# Altium schematic symbol library Other.SchLib: 75 symbols
Pins are listed as number, name and electrical type; pins without a type are passive.

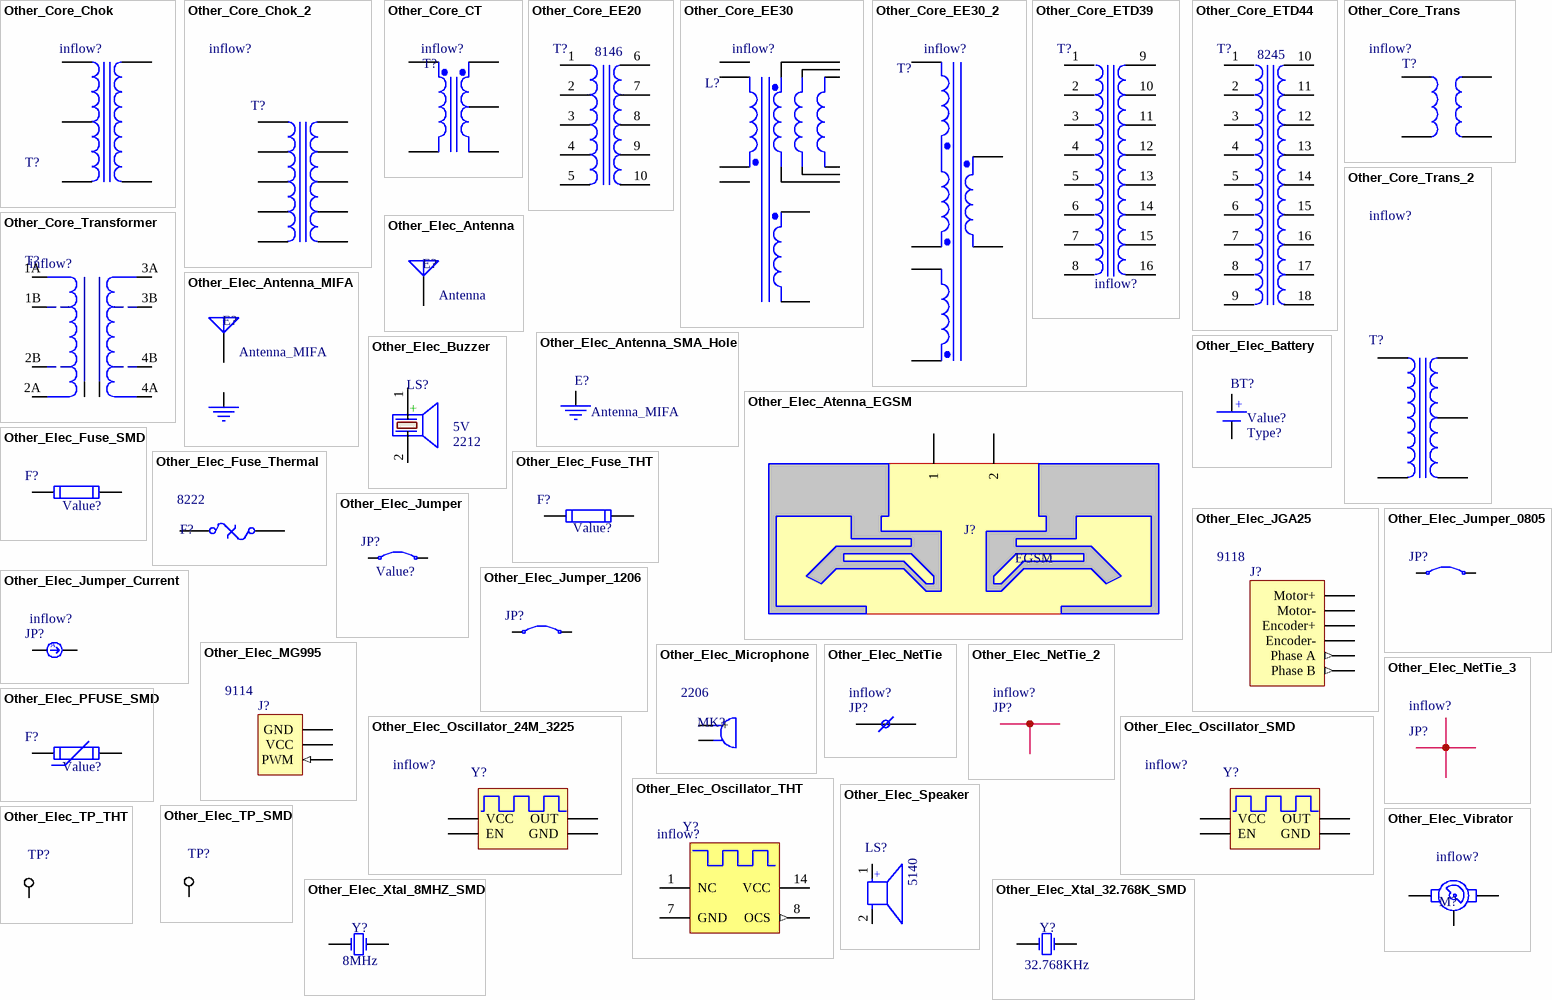
[diagram p0: symbols Other_Core_Chok to Other_Elec_Xtal_32.768K_SMD]

## Other_Core_Chok
designator T?, comment Inflow: inflow?  (hidden comment: Value?)
Chok1; Rating: Rating?; Type: Type?; Validation: NT; Value: Value?; Package: Package?
footprint CHOK
pins: 0, 1, 2, 3, 4

## Other_Core_Chok_2
designator T?, comment Inflow: inflow?  (hidden comment: Value?)
Chok2; Rating: Rating?; Type: Type?; Validation: NT; Value: Value?; Package: Package?
footprint CHOK 1
pins: 1, 2, 3, 4, 5, 6, 7, 8, 9, 10

## Other_Core_CT
designator T?, comment Inflow: inflow?  (hidden comment: Value?)
Center-Tapped Transformer; Rating: Rating?; Type: Type?; Validation: NT; Value: Value?; Package: Package?
footprint TRF_5 (Transformer; 5 Leads)
pins: 1 Pri+, 2 Pri-, 3 Sec+, 4 SecCT, 5 Sec-

## Other_Core_EE20
designator T?, comment Inflow: 8146  (hidden comment: EE20/10/6/H)
Ferrite Core; Rating: Rating?; Type: Type?; Validation: Valid; Value: EE20/10/6/H; Package: Package?
footprint EE20
pins: 1 (power), 2 (power), 3 (power), 4 (power), 5 (power), 6 (power), 7 (power), 8 (power), 9 (power), 10 (power)

## Other_Core_EE30
designator L?, comment Inflow: inflow?  (hidden comment: EE30-TR)
Rating: Rating?; Type: Type?; Validation: NT; Value: EE30-TR; Package: Package?
footprint EE30-TR (PDL-851 Trance)
pins: 1 Sec1+, 2 Sec1+, 3 Sec1+, 4 Sec1-, 5 Sec1-, 6 Sec1-, 7 F+, 8 F-, 9, 10 Pri1-, 11, 12 Pri1+

## Other_Core_EE30_2
designator T?, comment Inflow: inflow?  (hidden comment: EE30-TR)
TRANS; Rating: Rating?; Type: Type?; Validation: NT; Value: EE30-TR; Package: Package?
footprint EE30-TR-1 (PDL-851 Trance)
pins: 1 Pri1+, 2 Pri1-, 3 Pri2-, 4 Pri2+, 5 F+, 6 F-

## Other_Core_ETD39
designator T?, comment Inflow: inflow?  (hidden comment: ETD39)
Ferrite Core; Rating: Rating?; Validation: Valid; Value: ETD39; Package: Dip; Type: Ferrite
footprint ETD39
pins: 1 (power), 2 (power), 3 (power), 4 (power), 5 (power), 6 (power), 7 (power), 8 (power), 9 (power), 10 (power), 11 (power), 12 (power), 13 (power), 14 (power), 15 (power), 16 (power)

## Other_Core_ETD44
designator T?, comment Inflow: 8245  (hidden comment: ETD44/22/15)
Ferrite Core; Rating: Rating?; Type: Type?; Validation: Valid; Value: ETD44/22/15; Package: Package?
footprint ETD44
pins: 1 (power), 2 (power), 3 (power), 4 (power), 5 (power), 6 (power), 7 (power), 8 (power), 9 8 (power), 10 (power), 11 (power), 12 (power), 13 (power), 14 (power), 15 (power), 16 (power), 17 (power), 18 (power)

## Other_Core_Trans
designator T?, comment Inflow: inflow?  (hidden comment: Value?)
Transformer; Rating: Rating?; Type: Type?; Validation: NT; Value: Value?; Package: Package?
footprint TRANS (Transformer; 4 Leads)
pins: 1, 2, 3, 4

## Other_Core_Trans_2
designator T?, comment Inflow: inflow?  (hidden comment: Value?)
Trans1; Rating: Rating?; Type: Type?; Validation: NT; Value: Value?; Package: Package?
footprint TRANC 1
pins: 1, 2, 3, 4, 5

## Other_Core_Transformer
designator T?, comment Inflow: inflow?  (hidden comment: Value?)
Transformer; Rating: Rating?; Type: Type?; Validation: NT; Value: Value?; Package: Package?
footprint Trans- Small
pins: 1A, 1B, 2A, 2B, 3A, 3B, 4A, 4B, SA, SB

## Other_Elec_Antenna
designator E?, comment Antenna
Generic Antenna; Inflow: inflow?; Value: Value?; Rating: Rating?; Validation: NT; Package: Package?; Type: Type?
footprint Antenna_IIFA_2.4GHz (Small Size IIFA 2.4 GHz PCB antenna)
footprint GPS1003 (GPS1003 Multilayer Chip Antenna)
footprint MD1506_12N (MD1506  ‐  12N  Multilayer  Chip  Antenna)
footprint AN1603 (AN1603 Multilayer Chip Antenna)
footprint Antenna_IIFA_868MHz_915MHz (Small Size IIFA 868MHz/915MHz PCB antenna)
footprint Antenna_ILA_2.4GHz
footprint Antenna_ILA_B_2.4GHz
footprint Antenna_PIFA_2.4GHz_1MM (Small Size PIFA 2.4 GHz PCB antenna)
footprint AN9520 (AN9520  Multilayer Chip Antenna for  2.4GHz Wireless Communication)
footprint Antenna_RT5370_AP_D9595 (Wi-Fi 2.4GHz PCB Antenna)
footprint Antenna_IIFA_2.4GHz_ESP (Small Size IIFA 2.4 GHz PCB antenna)
pins: 1 A

## Other_Elec_Antenna_MIFA
designator E?, comment Antenna_MIFA
Meandered Inverted F Antenna; Inflow: inflow?; Value: Value?; Rating: Rating?; Validation: NT; Package: Package?; Type: Type?
footprint Antenna_IIFA_2.4GHz (Small Size IIFA 2.4 GHz PCB antenna)
footprint Antenna_IIFA_868MHz_915MHz (Small Size IIFA 868MHz/915MHz PCB antenna)
footprint Antenna_IIFA_868MHz_915MHz (Small Size IIFA 868MHz/915MHz PCB antenna)
footprint Antenna_PIFA_2.4GHz_1MM (Small Size PIFA 2.4 GHz PCB antenna)
footprint Antenna_RT5370_AP_D9595 (Wi-Fi 2.4GHz PCB Antenna)
footprint Antenna_IIFA_2.4GHz_ESP (Small Size IIFA 2.4 GHz PCB antenna)
pins: 1 A, 2 G

## Other_Elec_Antenna_SMA_Hole
designator E?, comment Antenna_MIFA
SMA PCB Hole; Inflow: inflow?; Value: Value?; Rating: Rating?; Validation: NT; Package: Package?; Type: Type?
footprint SMA_PCB_Hole
pins: 2 G

## Other_Elec_Atenna_EGSM
designator J?, comment EGSM
Inflow: inflow?; Value: Value?; Rating: Rating?; Validation: NT; Package: Package?; Type: Type?
footprint EGSM (EGSM Antenna (900MHz Band))
pins: 1, 2

## Other_Elec_Battery
designator BT?, comment Type: Type?  (hidden comment: Value?)
Multicell Battery; Inflow: inflow?; Rating: Rating?; Validation: Valid; Package: Package?; Value: Value?
footprint BAT-2 (Battery; 2 Leads)
footprint Battry
footprint Battry 9V; pin to pad 1>2 2>1
footprint CR2032 (Battery holder)
footprint BTH2032 (COIN CELL BATTERY HOLDER 1220 12mm CR2032)
footprint cell_holder (Battery Cell Holder)
footprint cell_holder2 (Battery Cell Holder)
footprint SMD_CELL_HOLDER_BC501SM-TR (BC501SM-TR Battery Holder (For CR1220 Cells))
footprint CR1220 (Battery Holder, Lead Spacing 19mm)
footprint BATT_LR
footprint ER14505 (Primary Lithium Thionyl Chloride 3V6, 2400mA)
footprint ER26500M (Primary Lithium Thionyl Chloride 3V6, 6500mA)
footprint ER34615 (Primary Lithium Thionyl Chloride 3V6, 6500mA)
footprint Li-ion battery holder
footprint CR2032 Straight (Battery Holder)
footprint XH02_Batt (XH Connector, Body 2.5 x 7.4 mm)
footprint SMD BATT_PAD
pins: 1 +, 2 -

## Other_Elec_Buzzer
designator LS?, comment Inflow: 2212  (hidden comment: 5V)
Magnetic Transducer Buzzer; Rating: 12mm; Validation: Valid; Type: Buzzer; Package: Dip; Value: 5V
footprint BZ_SJ
footprint BZ_ABSM-1574 (Footprint not found)
footprint BZ_B/C11L
footprint BZ_B/C11S
footprint BZ_B/C14L
footprint BZ_B/C14S
footprint BZ_B/C17L
footprint BZ_B/C17S
footprint BZ_BMT1205XH7.5
footprint BZ_BPT-24X
footprint BZ_EB2209A
footprint BZ_EB2505
footprint BZ_EFBAA40D101
footprint BZ_EFBRD22C41
footprint BZ_EFBRD22C413
footprint BZ_EFBRD24C411
footprint BZ_F/BC35
footprint BZ_F/BC40
footprint BZ_F/CM04P
footprint BZ_F/CM12P
footprint BZ_F/DB18
footprint BZ_F/EB20P
footprint BZ_F/EE17P
footprint BZ_F/EE21P
footprint BZ_F/HGP
footprint BZ_F/HMB
footprint BZ_F/QMB
footprint BZ_F/QMBIII
footprint BZ_F/QMX
footprint BZ_F/TMB
footprint BUZZER 7.62mm DC (BUZZER 12mm DIA , 7.62mm pitch DESIGNER ABBAS BASEREH)
pins: 1 +, 2 -
4 alternate drawings of the same symbol

## Other_Elec_Fuse_SMD
designator F?, comment Value?
Short circiut  protection; Inflow: inflow?; Type: Fast; Rating: Rating?; Validation: Valid; Package: 1206; Value: Value?
footprint 1206 fuse (Fast Acting Smd 1206 non-Resettable Fuse Chip For Pcb Board-Design:Abbas Basereh)
footprint 0402_F (Surface mount FUSE 0402)
footprint 0603_F (Surface mount FUSE 0603)
footprint 0805_F (Surface mount FUSE 0805)
footprint 1206_F (Surface mount FUSE 1206)
footprint 1812_F (Surface mount FUSE 1812)
footprint 2010_F
footprint 2512_F
pins: 1, 2

## Other_Elec_Fuse_Thermal
designator F?, comment Inflow: 8222  (hidden comment: 180'C, 10'A)
Thermal Fuse; Rating: Rating?; Type: Type?; Validation: NT; Value: 180'C, 10'A; Package: Package?
footprint PIN-W2/E2.8 (Thru-Hole; 2 Leads)
pins: 1, 2

## Other_Elec_Fuse_THT
designator F?, comment Value?
Short circiut  protection; Type: Type?; Inflow: inflow?; Rating: Rating?; Validation: Valid; Package: Package?; Value: Value?
footprint Fuse1 (Fuse Box with Door)
footprint Fuse'
footprint Fuse''
footprint Fuse 5x20 With holder pin (Dsigner : Abbas Basereh)
footprint FUSE_5X20MM_4PIN (Fuse Holder 5x20mm 4 PIN)
footprint FUSE_6X30MM_4PIN (Fuse Holder 6x30mm 4 PIN)
footprint Fuse - Complex
footprint Fuse_resistor
footprint FUSE-Double PAD
footprint Fuse-Single Pad
footprint FUSE_PPTC_UF90
footprint FUSE_PPTC_UF200
footprint FUSE_PPTC_UF250
footprint FUSE_PPTC_UF300
footprint FUSE_PPTC_UF400
footprint FUSE_PPTC_UF500
footprint FUSE_PPTC_UF900
footprint FUSE_PPTC_XF0025
footprint FUSE_PPTC_XF0050
footprint FUSE_PPTC_XF160
footprint FUSE_BLX_20x5
pins: 1, 2

## Other_Elec_JGA25
designator J?, comment Inflow: 9118  (hidden comment: JGA25)
Dc motor with enchoder; Rating: Rating?; Validation: NT; Value: JGA25; Package: Package?; Type: Type?
footprint HDR_THT_6M_2.54mm (Pin Header, pitch 2.54 mm, THT, Vertical, single row, 6p)
footprint HDR_SMD_6M_2.54mm_ (Pin Header, pitch 2.54 mm, SMD, Vertical, single row, 6p)
footprint HDR_SMD_6M_2.54mm (Pin Header, pitch 2.54 mm, SMD, Vertical, single row, 6p)
footprint HDR_THT_6M_2.54mm_RA (Pin Header, pitch 2.54 mm, THT, Angled, single row, 6p)
pins: 1 Motor+ (power) "Red, Max:24'V", 2 Motor- (power) "Black", 3 Encoder+ (power) "Green, +5'V", 4 Encoder- (power) "Blue, GND", 5 Phase A (out) "White", 6 Phase B (out) "Yellow"

## Other_Elec_Jumper
designator JP?, comment Value?
Jumper Component; Rating: Rating?; Inflow: 1102; Validation: Valid; Package: Dip; Type: Selector; Value: Value?
footprint J0R/10 (0 Ohm Jumper Resistor)
footprint JP254_H (Jumper Header 2.54mm Pitch, Horizontal)
footprint JP254_V (Jumper Header 2.54mm Pitch, Vertical)
footprint SJ (SMD Jumper)
footprint SJW (SMD Jumper Wide)
footprint J0508-200 (5.08 mm (200mil) Jumper wire)
footprint J0762-300 (7.62 mm (300 mil) Jumper wire)
footprint J1016-400 (10.16 mm (400 mil) Jumper wire)
footprint J1270-500 (12.7 mm (500 mil) Jumper wire)
footprint J1524-600 (15.24 mm (600 mil) Jumper wire)
footprint J2032-800 (20.32 mm (800 mil) Jumper wire)
footprint J2540-1000 (25.4 mm (1000 mil) Jumper wire)
footprint J3048-1200 (30.48 mm (1200 mil) Jumper wire)
footprint JMP-0.4
footprint JMP-0.5
pins: 1, 2
4 alternate drawings of the same symbol

## Other_Elec_Jumper_0805
designator JP?, comment Jumper  (value not drawn)
Jumper Component; Rating: Rating?; Inflow: inflow?; Validation: Valid; Type: Type?; Package: 0805; Value: Jumper
footprint RESC2012M (0805) (Chip Resistor, Body 2.0x1.3mm, IPC Low Density)
pins: 1, 2
4 alternate drawings of the same symbol

## Other_Elec_Jumper_1206
designator JP?, comment Jumper  (value not drawn)
Jumper Component; Rating: Rating?; Inflow: inflow?; Validation: Valid; Type: Type?; Package: 1206; Value: Jumper
footprint RESC3216X60M (1206) (Chip Resistor, Body 3.2x1.6x0.60mm, IPC Low Density)
pins: 1, 2
4 alternate drawings of the same symbol

## Other_Elec_Jumper_Current
designator JP?, comment Inflow: inflow?  (hidden comment: Jumper)
Current jumper component; Rating: Rating?; Validation: NT; Value: Jumper; Package: Package?; Type: Type?
footprint CJ_500_1'mm (12.7 mm (500 mil) Jumper wire)
footprint CJ_500_1.5'mm (12.7 mm (500 mil) Jumper wire)
footprint CJ_500_2.5'mm (12.7 mm (500 mil) Jumper wire)
footprint CJ_800_1'mm (20.32 mm (800 mil) Jumper wire)
footprint CJ_800_1.5'mm (20.32 mm (800 mil) Jumper wire)
footprint CJ_800_2.5'mm (20.32 mm (800 mil) Jumper wire)
footprint CJ_1200_1'mm (30.48 mm (1200 mil) Jumper wire)
footprint CJ_1200_1.5'mm (30.48 mm (1200 mil) Jumper wire)
footprint CJ_1200_2.5'mm (30.48 mm (1200 mil) Jumper wire)
pins: 1, 2
4 alternate drawings of the same symbol
text: A

## Other_Elec_MG995
designator J?, comment Inflow: 9114  (hidden comment: MG995)
MG995 180deg Servo motor; Rating: Rating?; Validation: Valid; Value: MG995; Package: Package?; Type: Type?
footprint HDR_THT_3M_2.54mm (Pin Header, pitch 2.54 mm, THT, Vertical, single row, 3p)
footprint HDR_THT_3M_2.54mm_RA (Pin Header, pitch 2.54 mm, THT, Angled, single row, 3p)
pins: 1 GND (power) "Brown", 2 VCC (power) "Red, 4.8'V~7.2'V=5'V", 3 PWM (in) "Yellow"

## Other_Elec_Microphone
designator MK?, comment Inflow: 2206  (hidden comment: Mic)
Microphone; Rating: Rating?; Validation: NT; Value: Mic; Package: Package?; Type: Type?
footprint PIN2 (Microphone; 2 Leads)
footprint mic6
footprint mic10
footprint Microphone
pins: 1 +, 2

## Other_Elec_NetTie
designator JP?, comment Inflow: inflow?  (hidden comment: NetTile1)  (net tie, no BOM)
Net Tie One to One Connection; Rating: Rating?; Validation: NT; Value: NetTile1; Package: Package?; Type: Type?
footprint NT_1-1_1 (NetTie One to One)
footprint NT_1-1_3 (NetTie One to One)
footprint NT_1-1_1 - small (NetTie One to One)
footprint NT_1-1_3 - small (NetTie One to One)
footprint NT_1X1X01 (NetTie One to One - 0.1mm width)
footprint NT_1X1X02 (NetTie One to One - 0.2mm width)
footprint NT_1X1X03 (NetTie One to One- 0.3mm width)
footprint NT_1X1X04 (NetTie One to One- 0.4mm width)
footprint NT_1X1X05 (NetTie One to One- 0.5mm width)
footprint NT_1X1X06 (NetTie One to One- 0.6mm width)
footprint NT_1X1X07 (NetTie One to One- 0.7mm width)
footprint NT_1X1X08 (NetTie One to One- 0.8mm width)
footprint NT_1X1X09 (NetTie One to One- 0.9mm width)
footprint NT_1X1X10 (NetTie One to One- 1.0mm width)
footprint NT_1X1X12 (NetTie One to One- 1.2mm width)
footprint NT_1X1X15 (NetTie One to One- 1.5mm width)
footprint NT_1X1X20 (NetTie One to One- 2.0mm width)
pins: 1 (power), 2 (power)
1 alternate drawing of the same symbol

## Other_Elec_NetTie_2
designator JP?, comment Inflow: inflow?  (hidden comment: NetTile2)  (net tie, no BOM)
Net Tie One to Two Connection; Rating: Rating?; Validation: NT; Value: NetTile2; Package: Package?; Type: Type?
footprint NT_1-2_1 (NetTie One to Two)
footprint NT_1-2_2 (NetTie One to Two)
footprint NT_1-2_3 (NetTie One to Two)
footprint NT_1-2_4 (NetTie One to Two)
footprint NT_1-2_5 (NetTie One to Two)
footprint NT_1-2_6 (NetTie One to Two)
footprint NT_1-2_1 - small (NetTie One to Two)
footprint NT_1-2_2 - small (NetTie One to Two)
pins: 1 (power), 2 (power), 3 (power)
1 alternate drawing of the same symbol

## Other_Elec_NetTie_3
designator JP?, comment Inflow: inflow?  (hidden comment: NetTile3)  (net tie, no BOM)
Net Tie One to Two Connection; Rating: Rating?; Validation: NT; Value: NetTile3; Package: Package?; Type: Type?
footprint NT_1-3_1 (NetTie One to Three)
footprint NT_1-3_1 - small (NetTie One to Two)
footprint NT_1-3_2 (NetTie One to Three)
footprint NT_1-3_2 - small (NetTie One to Two)
footprint NT_1-3_3 (NetTie One to Three)
footprint NT_1-3_4 (NetTie One to Three)
footprint NT_1-3_5 (NetTie One to Two)
pins: 1 (power), 2 (power), 3 (power), 4 (power)
1 alternate drawing of the same symbol

## Other_Elec_Oscillator_24M_3225
designator Y?, comment Inflow: inflow?  (hidden comment: 24MHz)
1.8V to 3.3V 24MHz SMD3225-4P Oscillators; Rating: 20PPM; Validation: Valid; Value: 24MHz; Package: 3225; Type: Oscillator
footprint XTL_4_3225A (CRYSTAL OSCILATOR 3.2X2.5mm, ABM8, CDFN-4)
footprint XTL_4_3225GEN (CRYSTAL OSCILATOR 1.2X1.0mm to 3.2X2.5mm)
footprint XTL_4_3225A_Extended (CRYSTAL OSCILATOR 3.2X2.5mm, ABM8, CDFN-4)
pins: 1 EN, 2 GND, 3 OUT, 4 VCC

## Other_Elec_Oscillator_SMD
designator Y?, comment Inflow: inflow?  (hidden comment: Value?)
SMT Active Oscillator; Rating: Rating?; Validation: NT; Value: Value?; Package: Package?; Type: Type?
footprint SMT_XTAL_5x7mm
footprint SMT_XTAL_3225 (Quartz Crystal, SM; Body 3.2 x 2.5 mm)
footprint XTL_4_3225 (CRYSTAL OSCILATOR 3.2X2.5mm, ABM8, CDFN-4)
footprint XTL_4_3225A (CRYSTAL OSCILATOR 3.2X2.5mm, ABM8, CDFN-4)
pins: 1 EN, 2 GND, 3 OUT, 4 VCC

## Other_Elec_Oscillator_THT
designator Y?, comment Inflow: inflow?  (hidden comment: Value?)
Crystal Ocsilator; Rating: Rating?; Validation: NT; Value: Value?; Package: Package?; Type: Type?
footprint OCS
pins: 1 NC, 7 GND (power), 8 OCS (out), 14 VCC (power)

## Other_Elec_PFUSE_SMD
designator F?, comment Value?
SMD Resettable Fuses; Inflow: inflow?; Type: Fast; Rating: Rating?; Validation: Valid; Package: 1206; Value: Value?
footprint 1206 fuse (Fast Acting Smd 1206 non-Resettable Fuse Chip For Pcb Board-Design:Abbas Basereh)
footprint 0402_F (Surface mount FUSE 0402)
footprint 0603_F (Surface mount FUSE 0603)
footprint 0805_F (Surface mount FUSE 0805)
footprint 1206_F (Surface mount FUSE 1206)
footprint 1812_F (Surface mount FUSE 1812)
footprint 2010_F
footprint 2512_F
pins: 1, 2

## Other_Elec_Speaker
designator LS?, comment Inflow: 5140  (hidden comment: 8'Ohm, 0.5'Watt)
Speaker; Rating: Rating?; Validation: NT; Value: 8'Ohm, 0.5'Watt; Package: Package?; Type: Type?
footprint SP_AL11P
footprint SP_AL23P
footprint SP_AL30P
footprint SP_AL60P
footprint SP_AL201P
footprint SP_F/PMX04A
footprint SP_KSS1201
footprint JST XH B2B-XH-A
footprint JST XH B2B-XH-A - RIGHT
footprint MOLEX KK 0022272021
pins: 1 + "Positive Pin", 2 - "Negative Pin"
1 alternate drawing of the same symbol

## Other_Elec_TP_SMD
designator TP?, comment TestPoint  (value not drawn)  (no BOM)
Test Point; Rating: Rating?; Validation: NT; Inflow: inflow?; Value: TestPoint; Package: Package?; Type: Type?
footprint TP19 (Round SMD Test Pin; 1.9 mm)
footprint TP07SQ (Square SMD Test Pin; 0.7 mm)
footprint TP08SQ (Square SMD Test Pin; 0.8 mm)
footprint TP07 (Round SMD Test Pin; 0.7 mm)
footprint TP10SQ (Square SMD Test Pin; 1.0 mm)
footprint TP06SQ (Square SMD Test Pin; 0.6 mm)
footprint TP11SQ (Square SMD Test Pin; 1.1 mm)
footprint TP12SQ (Square SMD Test Pin; 1.2 mm)
footprint TP13SQ (Square SMD Test Pin; 1.3 mm)
footprint TP14SQ (Square SMD Test Pin; 1.4 mm)
footprint TP15SQ (Square SMD Test Pin; 1.5 mm)
footprint TP16SQ (Square SMD Test Pin; 1.6 mm)
footprint TP17SQ (Square SMD Test Pin; 1.7 mm)
footprint TP18SQ (Square SMD Test Pin; 1.8 mm)
footprint TP19SQ (Square SMD Test Pin; 1.9 mm)
footprint TP20SQ (Square SMD Test Pin; 2.0 mm)
footprint TP06 (Round SMD Test Pin; 0.6 mm)
footprint TP20 (Round SMD Test Pin; 2.0 mm)
footprint TP18 (Round SMD Test Pin; 1.8 mm)
footprint TP17 (Round SMD Test Pin; 1.7 mm)
footprint TP16 (Round SMD Test Pin; 1.6 mm)
footprint TP15 (Round SMD Test Pin; 1.5 mm)
footprint TP14 (Round SMD Test Pin; 1.4 mm)
footprint TP13 (Round SMD Test Pin; 1.3 mm)
footprint TP12 (Round SMD Test Pin; 1.2 mm)
footprint TP11 (Round SMD Test Pin; 1.1 mm)
footprint TP10 (Round SMD Test Pin; 1.0 mm)
footprint TP09 (Round SMD Test Pin; 0.9 mm)
footprint TP09SQ (Square SMD Test Pin; 0.9 mm)
footprint TP08 (Round SMD Test Pin; 0.8 mm)
footprint Test_Pin
footprint TP_SMD_1x4
footprint TP_SMD_1x3
footprint TP_SMD_1x2
footprint TP_SMD_1.5x2
footprint TP_SMD_1.5x3
footprint TP_SMD_1.5x4
footprint TP_SMD_2x2
footprint TP_SMD_2x3
footprint TP_SMD_2x4
footprint TP_SMD_1x1
pins: 1 TP
1 alternate drawing of the same symbol

## Other_Elec_TP_THT
designator TP?, comment TestPoint  (value not drawn)
Test Point; Rating: Rating?; Inflow: inflow?; Validation: Valid; Value: TestPoint; Package: Dip; Type: Type?
footprint Test Point
footprint Test Point Small
footprint TP-40P (Testpoint - 40 mil Hole Size)
footprint Wire 1.0 mm
footprint Wire 1.5 mm
footprint Wire 2.0 mm
pins: 1 TP
1 alternate drawing of the same symbol

## Other_Elec_Vibrator
designator M?, comment Inflow: inflow?  (hidden comment: Vibrator)
Rating: Rating?; Validation: NT; Value: Vibrator; Package: Package?; Type: Type?
footprint VIBRATOR (Vibrator)
pins: 1 R1, 2 R2, ETH (power)

## Other_Elec_Xtal_8MHZ_SMD
designator Y?, comment 8MHz
Crystal Oscillator; Rating: 10ppm; Inflow: inflow?; Validation: NT; Package: 5032; Type: Crystal; Value: 8MHz
footprint Crystal SMD
footprint XTL_2_5032 (ABM3)
pins: 1 OSC1, 2 OSC2

## Other_Elec_Xtal_32.768K_SMD
designator Y?, comment 32.768KHz
Crystal Oscillator; Rating: 20ppm; Inflow: inflow?; Validation: Valid; Package: 3215; Type: Crystal; Value: 32.768KHz
footprint XTL_2_3215 (ABS07 3.2x1.5mm)
pins: 1 OSC1, 2 OSC2

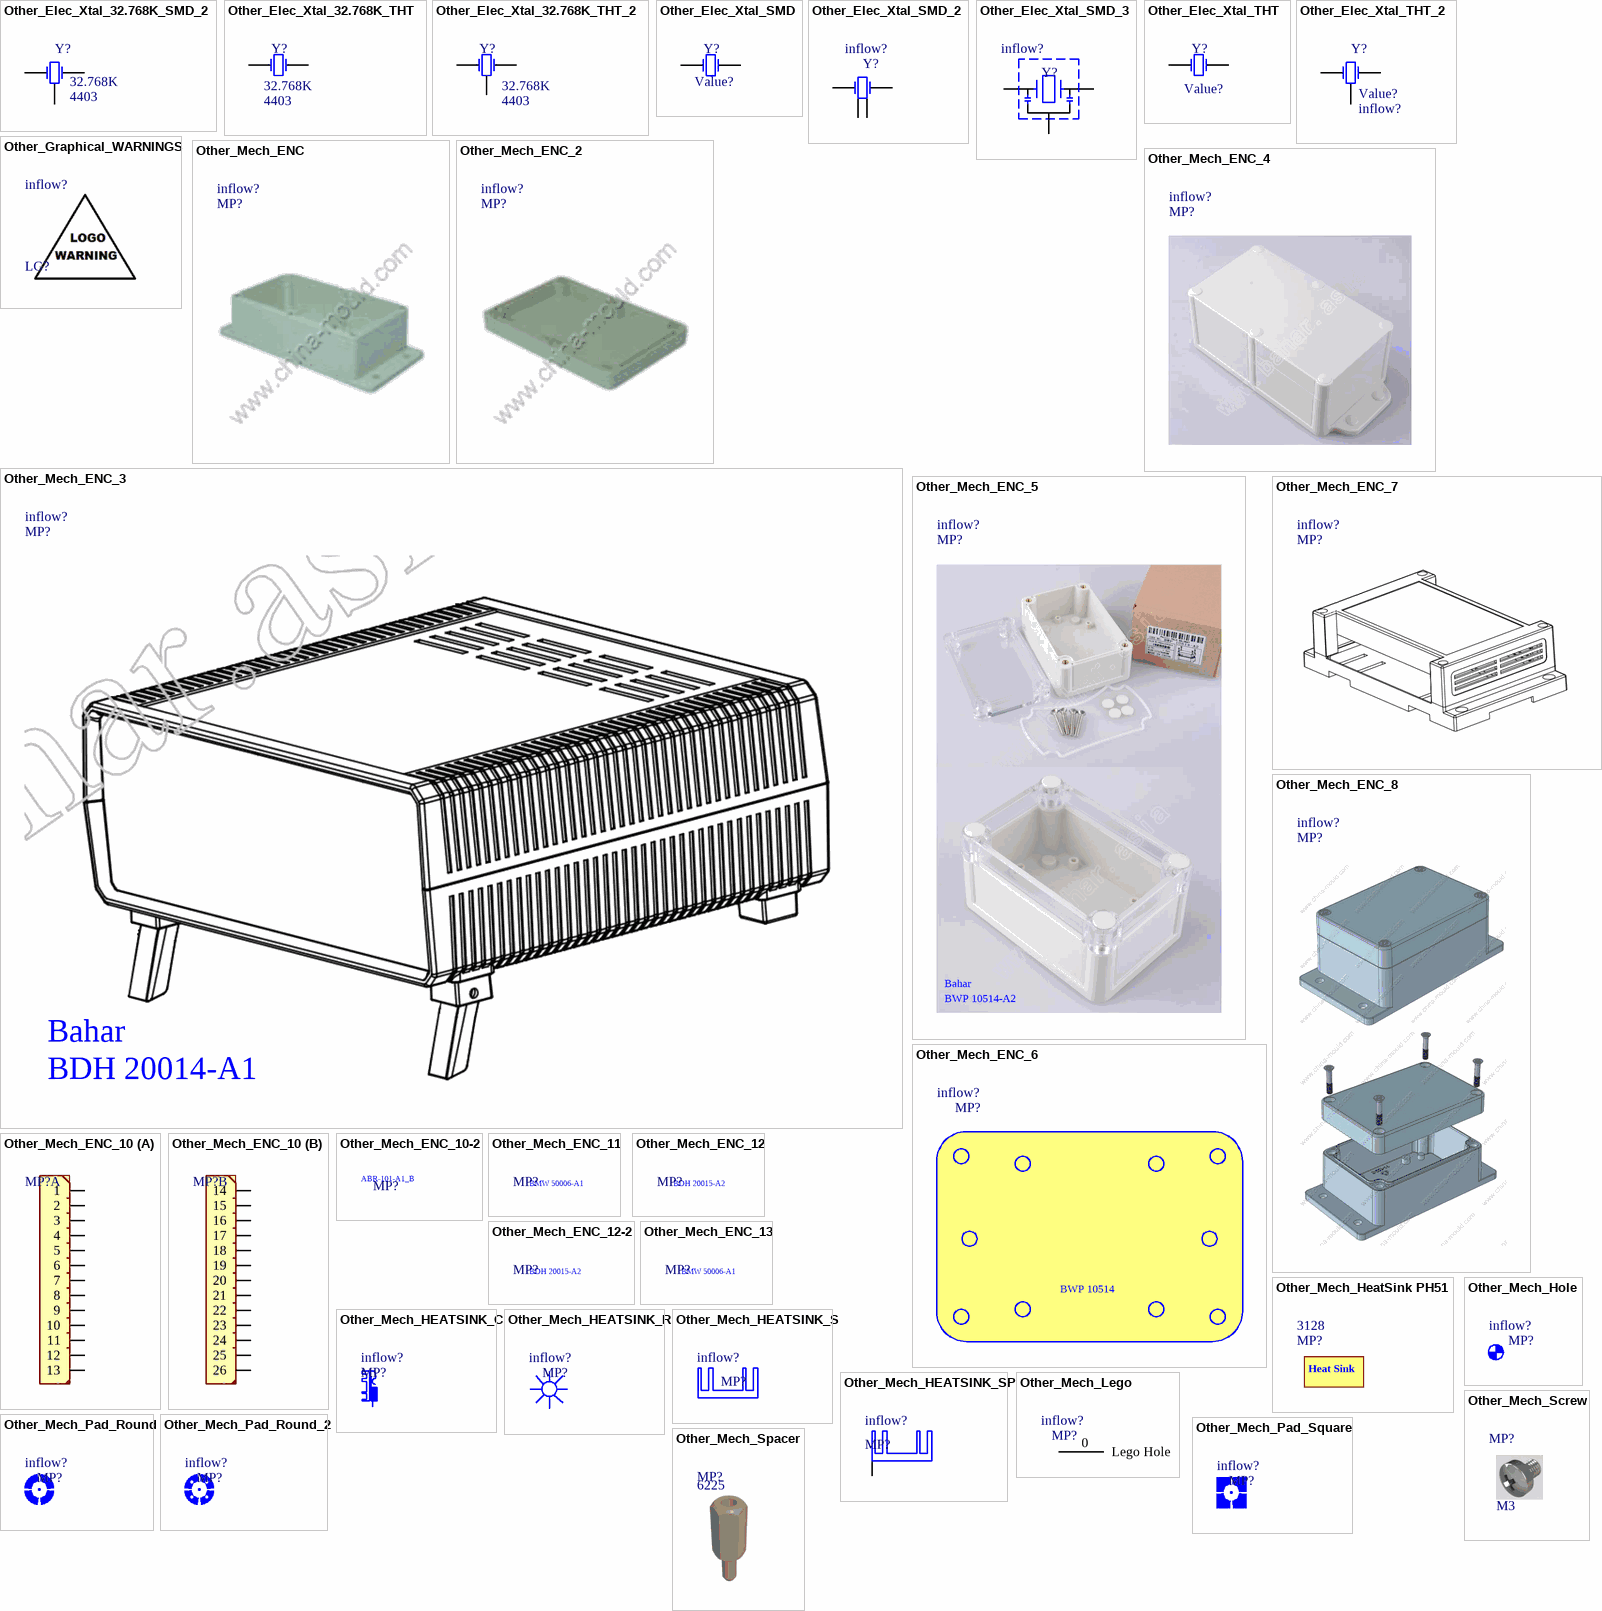
[diagram p1: symbols Other_Elec_Xtal_32.768K_SMD_2 to Other_Mech_Spacer]

## Other_Elec_Xtal_32.768K_SMD_2
designator Y?, comment Inflow: 4403  (hidden comment: 32.768K)
Crystals 32.768 KHz 6 pF REFLOWABLE SMD; Rating: 10ppm; Validation: NT; Type: Quartz; Package: SMD; Value: 32.768K
footprint XTAL RTC - H - GND_SMD
pins: 1 OSC1, 2 OSC2, 3

## Other_Elec_Xtal_32.768K_THT
designator Y?, comment Inflow: 4403  (hidden comment: 32.768K)
Crystal Oscillator; Rating: 10ppm; Validation: Valid; Package: Dip; Type: Quartz; Value: 32.768K
footprint XTAL RTC - V
footprint XTAL RTC - H
pins: 1 OSC1, 2 OSC2

## Other_Elec_Xtal_32.768K_THT_2
designator Y?, comment Inflow: 4403  (hidden comment: 32.768K)
Crystal Oscillator; Rating: 10ppm; Validation: NT; Package: Dip; Type: Quartz; Value: 32.768K
footprint XTAL RTC - H - GND
pins: 1 OSC1, 2 OSC2, 3 GND

## Other_Elec_Xtal_SMD
designator Y?, comment Value?
Crystal Oscillator; Rating: Rating?; Inflow: inflow?; Validation: Valid; Package: SMD; Type: Quartz; Value: Value?
footprint Crystal SMD
footprint SMD_XTAL RTC - H
footprint SMD_ABS07
footprint CX3225GA (3.2x2.5mm)
footprint XTL_2_5032 (ABM3)
pins: 1 OSC1, 2 OSC2

## Other_Elec_Xtal_SMD_2
designator Y?, comment Inflow: inflow?  (hidden comment: Value?)
Crystals 7.3728MHz, 18pF 20ppm; Rating: Rating?; Validation: NT; Value: Value?; Package: Package?; Type: Type?
footprint ABMM2_6x3.6 (CERAMIC SURFACE MOUNT  LOW PROFILE QUARTZ CRYSTALS)
footprint SMD SEAM CRYSTAL SX5711 (High frequency stability and reliability.DESIGNER ABBAS BASEREH)
footprint SMT_XTAL_2520 (Quartz Crystal, SM; Body 2.5 x 2.0 mm)
footprint SMT_XTAL_3225 (Quartz Crystal, SM; Body 3.2 x 2.5 mm)
pins: 1 OSC1, 2, 3 OSC2, 4

## Other_Elec_Xtal_SMD_3
designator Y?, comment Inflow: inflow?  (hidden comment: Value?)
MURATA CSTCE_V Ceramic oscillator,  with built-in load capacitance.; Rating: Rating?; Validation: NT; Value: Value?; Package: Package?; Type: Type?
footprint SMT_XTAL_CSTCE_V (MURATA CSTCE_V)
pins: 1, 2, 3

## Other_Elec_Xtal_THT
designator Y?, comment Value?
Crystal Oscillator; Rating: Rating?; Inflow: inflow?; Validation: Valid; Type: Quartz; Package: Dip; Value: Value?
footprint XTAL
footprint XTAL Small
footprint XTAL RTC - V
footprint XTAL RTC - H
footprint R38 (Crystal, Thru-Hole; 2 Leads; Body 3.1 x 8.2 mm (Dia.xH))
footprint XTAL_BIG
pins: 1 OSC1, 2 OSC2

## Other_Elec_Xtal_THT_2
designator Y?, comment Inflow: inflow?  (hidden comment: Value?)
Crystals +/-20ppm FUNDAMENTAL; Rating: Rating?; Validation: NT; Type: 20ppm; Package: Dip; Value: Value?
footprint XTAL Small - GND
pins: 1 OSC1, 2 OSC2, 3

## Other_Graphical_WARNINGS
designator LG?, comment Inflow: inflow?  (hidden comment: Warning)  (graphical)
WARNING & LOGO; Rating: Rating?; Validation: NT; Value: Warning; Package: Package?; Type: Type?
footprint LOGO SPEAKER
footprint LOGO USB1 (General USB Logo)
footprint LOGO RESET
footprint LOGO ALTIUM1
footprint Logo_NodeMCU_700x992 (Logo NodeMCU)
footprint LOGO-DUSTBIN
footprint Logo-Bluetooth
7 alternate drawings of the same symbol

## Other_Mech_ENC
designator MP?, comment Inflow: inflow?  (hidden comment: 11-9-2)
Water Proof Enclosure; Rating: Rating?; Validation: NT; Value: 11-9-2; Package: Package?; Type: Type?
footprint SANHE_11-9-2 (Water Proof Enclosure)

## Other_Mech_ENC_2
designator MP?, comment Inflow: inflow?  (hidden comment: 11-18-1)
Water Proof Enclosure; Rating: Rating?; Validation: NT; Value: 11-18-1; Package: Package?; Type: Type?
footprint SANHE_11-18-1 (Water Proof Enclosure)

## Other_Mech_ENC_3
designator MP?, comment Inflow: inflow?  (hidden comment: BDH 20014-A1)
Desktop plastic box; Rating: Rating?; Validation: NT; Value: BDH 20014-A1; Package: Package?; Type: Type?
footprint BAHAR_BDH20014-A1_FRONT (Desktop Plastic Box)
footprint BAHAR_BDH20014-A1_BOTTOM (Desktop Plastic Box)
text: Bahar

## Other_Mech_ENC_4
designator MP?, comment Inflow: inflow?  (hidden comment: BWP10013-A1)
Water Proof Enclosure; Rating: Rating?; Validation: NT; Value: BWP10013-A1; Package: Package?; Type: Type?
footprint BWP10013-A1 (Water Proof Enclosure)

## Other_Mech_ENC_5
designator MP?, comment Inflow: inflow?  (hidden comment: BWP10514)
Water Proof Enclosure; Rating: Rating?; Validation: NT; Value: BWP10514; Package: Package?; Type: Type?
footprint BAHAR_BWP10514 (Water Proof Enclosure)
text: Bahar; BWP 10514-A2

## Other_Mech_ENC_6
designator MP?, comment Inflow: inflow?  (hidden comment: BWP10514)
Water Proof Enclosure; Rating: Rating?; Validation: NT; Value: BWP10514; Package: Package?; Type: Type?
footprint BAHAR_BWP10514 (Water Proof Enclosure)
text: BWP 10514

## Other_Mech_ENC_7
designator MP?, comment Inflow: inflow?  (hidden comment: BRT80007-A1)
Water Proof Enclosure; Rating: Rating?; Validation: NT; Value: BRT80007-A1; Package: Package?; Type: Type?
footprint BRT80007-A1

## Other_Mech_ENC_8
designator MP?, comment Inflow: inflow?  (hidden comment: 11x122x2)
Water Proof Enclosure; Rating: Rating?; Validation: NT; Value: 11x122x2; Package: Package?; Type: Type?
footprint SANHE_11-122-2 (Water Proof Enclosure)

## Other_Mech_ENC_10
designator MP?, comment ABR-101-A1  (value not drawn)
Rating: Rating?; Inflow: inflow?; Validation: Valid; Value: ABR-101-A1; Package: Package?; Type: Type?
footprint ABR-101-A1_A
part A pins: 1, 2, 3, 4, 5, 6, 7, 8, 9, 10, 11, 12, 13
part B pins: 14, 15, 16, 17, 18, 19, 20, 21, 22, 23, 24, 25, 26

## Other_Mech_ENC_10-2
designator MP?, comment ABR-101-A1  (value not drawn)
Rating: Rating?; Inflow: inflow?; Validation: Valid; Value: ABR-101-A1; Package: Package?; Type: Type?
footprint ABR-101-A1_B
text: ABR-101-A1_B

## Other_Mech_ENC_11
designator MP?, comment BMW 50006-A1  (value not drawn)
Rating: Rating?; Inflow: inflow?; Validation: Valid; Value: BMW 50006-A1; Package: Package?; Type: Type?
footprint BMW 50006-A1

## Other_Mech_ENC_12
designator MP?, comment BDH 20015-A2  (value not drawn)
Rating: Rating?; Inflow: inflow?; Validation: Valid; Value: BDH 20015-A2; Package: Package?; Type: Type?
footprint BDH 20015-A2

## Other_Mech_ENC_12-2
designator MP?, comment BDH 20015-A2  (value not drawn)
BDH 20015-A2 Front; Rating: Rating?; Inflow: inflow?; Validation: Valid; Value: BDH 20015-A2; Package: Package?; Type: Type?
footprint BDH 20015-A2_2

## Other_Mech_ENC_13
designator MP?, comment BMC 70009-A1  (value not drawn)
Rating: Rating?; Inflow: inflow?; Validation: Valid; Value: BMC 70009-A1; Package: Package?; Type: Type?
footprint bmc-70009-a1
text: BMW 50006-A1

## Other_Mech_HeatSink PH51
designator MP?, comment Inflow: 3128  (hidden comment: Regulator Heat Sink)  (mechanical)
PH51 Heatsink; Rating: Rating?; Validation: NT; Value: Regulator Heat Sink; Package: Package?; Type: Type?
footprint HeatSink PH51
text: Heat Sink

## Other_Mech_HEATSINK_C
designator MP?, comment Inflow: inflow?  (hidden comment: On Chip Heat Sink)  (no BOM)
Rating: Rating?; Validation: NT; Value: On Chip Heat Sink; Package: Package?; Type: Type?
footprint HS_PF752

## Other_Mech_HEATSINK_R
designator MP?, comment Inflow: inflow?  (hidden comment: Round Heat Sink)  (no BOM)
Rating: Rating?; Validation: NT; Value: Round Heat Sink; Package: Package?; Type: Type?
footprint HS_KK185
footprint HS_KK505

## Other_Mech_HEATSINK_S
designator MP?, comment Inflow: inflow?  (hidden comment: Simple Heat Sink)  (no BOM)
Rating: Rating?; Validation: NT; Value: Simple Heat Sink; Package: Package?; Type: Type?
footprint HS_D01PA
footprint HS_D01S
footprint HS_D02A-L
footprint HS_D02PA
footprint HS_D02S
footprint HS_D03PA
footprint HS_D03S
footprint HS_FK201
footprint HS_FK209
footprint HS_FK213
footprint HS_SK12/25
footprint HS_SK13/35
footprint HS_SK36/37
footprint HS_SK36/50
footprint HS_SK36/75
footprint HS_SK68/37
footprint HS_SK68/50
footprint HS_SK95-2M3
footprint HS_SK96/84
footprint HS_SK104
footprint HS_SK125/50
footprint HS_SK125/84
footprint HS_SK129-HOLE

## Other_Mech_HEATSINK_SP
designator MP?, comment Inflow: inflow?  (hidden comment: Simple Heat Sink)  (no BOM)
Simple Heat Sink with Mounting Hole; Rating: Rating?; Validation: NT; Value: Simple Heat Sink; Package: Package?; Type: Type?
footprint HS_D01PA-PAD
footprint HS_D02PA-PAD
footprint HS_D03PA-PAD
footprint HS_FK218
footprint HS_FK222
footprint HS_SK104-PAD
footprint HS_SK129
pins: P Pad "Mounting Hole(s)"

## Other_Mech_Hole
designator MP?, comment Inflow: inflow?  (hidden comment: Hole 1)  (no BOM)
MOUNTING HOLE with drill center marker; Rating: Rating?; Validation: NT; Value: Hole 1; Package: Package?; Type: Type?
footprint P2.8 (MOUNTING HOLE 2.8 mm with drill center)
footprint P3.0 (MOUNTING HOLE 3.0 mm with drill center)
footprint P3.2 (MOUNTING HOLE 3.2 mm with drill center)
footprint P3.3 (MOUNTING HOLE 3.3 mm with drill center)
footprint P3.6 (MOUNTING HOLE 3.6 mm with drill center)
footprint P4.1 (MOUNTING HOLE 4.1 mm with drill center)
footprint P4.5 (MOUNTING HOLE 4.5 mm with drill center)
footprint P5.0 (MOUNTING HOLE 5.0 mm with drill center)
footprint P5.5 (MOUNTING HOLE 5.5 mm with drill center)
footprint P4.3 (MOUNTING HOLE 4.3 mm with drill center)

## Other_Mech_Lego
designator MP?, comment Inflow: inflow?  (hidden comment: Lego Hole)
Lego; Rating: Rating?; Validation: NT; Value: Lego Hole; Package: Package?; Type: Type?
footprint Lego Hole; pin to pad 0>1
pins: 0 Lego Hole

## Other_Mech_Pad_Round
designator MP?, comment Inflow: inflow?  (hidden comment: Hole 2)  (no BOM)
MOUNTING PAD, round; Rating: Rating?; Validation: NT; Value: Hole 2; Package: Package?; Type: Type?
footprint P2.8C (MOUNTING PAD 2.8 mm, round, 5.3 mm Diameter)
footprint P3.0C (MOUNTING PAD 3.0 mm, round, 5.8 mm Diameter)
footprint P3.2C (MOUNTING PAD 3.2 mm, round, 5.8 mm Diameter)
footprint P3.3C (MOUNTING PAD 3.3 mm, round, 5.8 mm Diameter)
footprint P3.6C (MOUNTING PAD 3.6 mm, round, 5.8 mm Diameter)
footprint P4.1C (MOUNTING PAD 4.1 mm, round, 8.0 mm Diameter)
footprint P4.5C (MOUNTING PAD 4.5 mm, round, 9.0 mm Diameter)
footprint P5.0C (MOUNTING PAD 5.0 mm, round, 9.0 mm Diameter)
footprint P5.5C (MOUNTING PAD 5.5 mm, round, 9.0 mm Diameter)
footprint P4.3C (MOUNTING PAD 4.3 mm, round, 9.0 mm Diameter)
pins: P hidden to SHIELD

## Other_Mech_Pad_Round_2
designator MP?, comment Inflow: inflow?  (hidden comment: Hole 3)  (no BOM)
MOUNTING PAD, round with holes around; Rating: Rating?; Validation: NT; Value: Hole 3; Package: Package?; Type: Type?
footprint P2.8CH (MOUNTING PAD 2.8 mm, round, 5.3 mm Diameter; with Holes around it)
footprint P3.0CH (MOUNTING PAD 3.0 mm, round, 5.8 mm Diameter; with Holes around it)
footprint P3.2CH (MOUNTING PAD 3.2 mm, round, 5.8 mm Diameter; with Holes around it)
footprint P3.3CH (MOUNTING PAD 3.3 mm, round, 5.8 mm Diameter; with Holes around it)
footprint P3.6CH (MOUNTING PAD 3.6 mm, round, 5.8 mm Diameter; with Holes around it)
footprint P4.1CH (MOUNTING PAD 4.1 mm, round, 8.0 mm Diameter; with Holes around it)
footprint P4.5CH (MOUNTING PAD 4.5 mm, round, 9.0 mm Diameter; with Holes around it)
footprint P5.0CH (MOUNTING PAD 5.0 mm, round, 9.0 mm Diameter; with Holes around it)
footprint P5.5CH (MOUNTING PAD 5.5 mm, round, 9.0 mm Diameter; with Holes around it)
footprint P4.3CH (MOUNTING PAD 4.3 mm, round, 9.0 mm Diameter; with Holes around it)
pins: P Pad hidden to SHIELD

## Other_Mech_Pad_Square
designator MP?, comment Inflow: inflow?  (hidden comment: Hole 4)  (no BOM)
MOUNTING PAD, square; Rating: Rating?; Validation: NT; Value: Hole 4; Package: Package?; Type: Type?
footprint P2.8SQ (MOUNTING PAD 2.8 mm, square, 5.8x5.8 mm)
footprint P3.0SQ (MOUNTING PAD 3.0 mm, square, 5.8x5.8 mm)
footprint P3.2SQ (MOUNTING PAD 3.2 mm, square, 5.8x5.8 mm)
footprint P3.3SQ (MOUNTING PAD 3.3 mm, square, 5.8x5.8 mm)
footprint P3.6SQ (MOUNTING PAD 3.6 mm, square, 5.8x5.8 mm)
footprint P4.1SQ (MOUNTING PAD 4.1 mm, square, 9.0x9.0 mm)
footprint P4.5SQ (MOUNTING PAD 4.5 mm, square, 9.0x9.0 mm)
footprint P5.0SQ (MOUNTING PAD 5.0 mm, square, 9.0x9.0 mm)
footprint P5.5SQ (MOUNTING PAD 5.5 mm, square, 9.0x9.0 mm)
footprint P4.3SQ (MOUNTING PAD 4.3 mm, square, 9.0x9.0 mm)
pins: P Pad hidden to SHIELD

## Other_Mech_Screw
designator MP?, comment M3
Board Screw With Spacer; Rating: Rating?; Inflow: 8243; Validation: Valid; Package: Package?; Type: Screw; Value: M3
footprint Board Screw
footprint Board Screw_No Silk
footprint SCREW-M3_SLOT
footprint SCREW-M3_COMPLEX
footprint SCREW-M3
footprint SCREW
footprint SCREW-M2.5

## Other_Mech_Spacer
designator MP?, comment Inflow: 6225  (hidden comment: FM, 6'mm)
Male or femail spacer; Rating: Rating?; Validation: NT; Value: FM, 6'mm; Package: Package?; Type: Type?
footprint 855-R30-3000402 (HARWiN Metric HEX Spacer; Threaded-Brass/Nickel; Male/Female; M3 X 04 mm)
footprint 855-R30-3000502 (HARWiN Metric HEX Spacer; Threaded-Brass/Nickel; Male/Female; M3 X 05 mm)
footprint 855-R30-3000602 (HARWiN Metric HEX Spacer; Threaded-Brass/Nickel; Male/Female; M3 X 06 mm)
footprint 855-R30-3000702 (HARWiN Metric HEX Spacer; Threaded-Brass/Nickel; Male/Female; M3 X 07 mm)
footprint 855-R30-3000802 (HARWiN Metric HEX Spacer; Threaded-Brass/Nickel; Male/Female; M3 X 08 mm)
footprint 855-R30-3000902 (HARWiN Metric HEX Spacer; Threaded-Brass/Nickel; Male/Female; M3 X 09 mm)
footprint 855-R30-3001002 (HARWiN Metric HEX Spacer; Threaded-Brass/Nickel; Male/Female; M3 X 10 mm)
footprint 855-R30-3001102 (HARWiN Metric HEX Spacer; Threaded-Brass/Nickel; Male/Female; M3 X 11 mm)
footprint 855-R30-3001202 (HARWiN Metric HEX Spacer; Threaded-Brass/Nickel; Male/Female; M3 X 12 mm)
footprint 855-R30-3001302 (HARWiN Metric HEX Spacer; Threaded-Brass/Nickel; Male/Female; M3 X 13 mm)
footprint 855-R30-3001402 (HARWiN Metric HEX Spacer; Threaded-Brass/Nickel; Male/Female; M3 X 14 mm)
footprint 855-R30-3001502 (HARWiN Metric HEX Spacer; Threaded-Brass/Nickel; Male/Female; M3 X 15 mm)
footprint 855-R30-3001602 (HARWiN Metric HEX Spacer; Threaded-Brass/Nickel; Male/Female; M3 X 16 mm)
footprint 855-R30-3001802 (HARWiN Metric HEX Spacer; Threaded-Brass/Nickel; Male/Female; M3 X 18 mm)
footprint 855-R30-3001902 (HARWiN Metric HEX Spacer; Threaded-Brass/Nickel; Male/Female; M3 X 19 mm)
footprint 855-R30-3002002 (HARWiN Metric HEX Spacer; Threaded-Brass/Nickel; Male/Female; M3 X 20 mm)
footprint 855-R30-3002402 (HARWiN Metric HEX Spacer; Threaded-Brass/Nickel; Male/Female; M3 X 24 mm)
footprint 855-R30-3002502 (HARWiN Metric HEX Spacer; Threaded-Brass/Nickel; Male/Female; M3 X 25 mm)
footprint 855-R30-3003002 (HARWiN Metric HEX Spacer; Threaded-Brass/Nickel; Male/Female; M3 X 30 mm)
footprint 855-R40-3000602 (HARWiN Metric HEX Spacer; Threaded-Brass/Nickel; Male/Female; M4 X 06 mm)
footprint 855-R40-3000702 (HARWiN Metric HEX Spacer; Threaded-Brass/Nickel; Male/Female; M4 X 07 mm)
footprint 855-R40-3000802 (HARWiN Metric HEX Spacer; Threaded-Brass/Nickel; Male/Female; M4 X 08 mm)
footprint 855-R40-3000902 (HARWiN Metric HEX Spacer; Threaded-Brass/Nickel; Male/Female; M4 X 09 mm)
footprint 855-R40-3001002 (HARWiN Metric HEX Spacer; Threaded-Brass/Nickel; Male/Female; M4 X 10 mm)
footprint 855-R40-3001102 (HARWiN Metric HEX Spacer; Threaded-Brass/Nickel; Male/Female; M4 X 11 mm)
footprint 855-R40-3001202 (HARWiN Metric HEX Spacer; Threaded-Brass/Nickel; Male/Female; M4 X 12 mm)
footprint 855-R40-3001302 (HARWiN Metric HEX Spacer; Threaded-Brass/Nickel; Male/Female; M4 X 13 mm)
footprint 855-R40-3001402 (HARWiN Metric HEX Spacer; Threaded-Brass/Nickel; Male/Female; M4 X 14 mm)
footprint 855-R40-3001502 (HARWiN Metric HEX Spacer; Threaded-Brass/Nickel; Male/Female; M4 X 15 mm)
footprint 855-R40-3001602 (HARWiN Metric HEX Spacer; Threaded-Brass/Nickel; Male/Female; M4 X 16 mm)
footprint 855-R40-3001802 (HARWiN Metric HEX Spacer; Threaded-Brass/Nickel; Male/Female; M4 X 18 mm)
footprint 855-R40-3002002 (HARWiN Metric HEX Spacer; Threaded-Brass/Nickel; Male/Female; M4 X 20 mm)
footprint 855-R40-3002502 (HARWiN Metric HEX Spacer; Threaded-Brass/Nickel; Male/Female; M4 X 25 mm)
footprint 855-R40-3003002 (HARWiN Metric HEX Spacer; Threaded-Brass/Nickel; Male/Female; M4 X 30 mm)